# Altium footprint library TPS631000DRLR.PcbLib: 1 footprints
Each footprint in its own frame and in the unit in brackets; x right, y up, seen from the top. Pads: shape width x height; smd on the part's side, far side on the other; paste and mask are expansions set on the pad; w line width, h text height; cw(c..) or ccw(c..) is an arc to the next point about the centre after c.
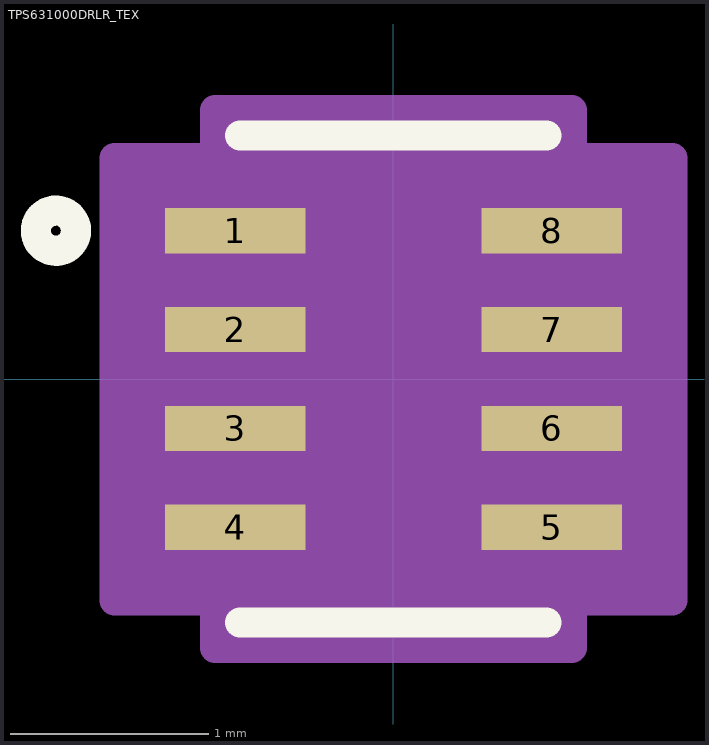
[diagram p0: the footprint, top view; thin cyan lines are the x and y axes]

## TPS631000DRLR_TEX [mil]
pads (8):
  rect 28x9 smd paste+0 mask+0: 1(-31.5,29.53) 2(-31.5,9.84) 3(-31.5,-9.84) 4(-31.5,-29.53) 5(31.5,-29.53) 6(31.5,-9.84) 7(31.5,9.84) 8(31.5,29.53)
Top Overlay:
  circle w6: c-67.19,29.53 r4
  lines w6: -30.5,-48.5 30.5,-48.5 ; -30.5,48.5 30.5,48.5
Mechanical 13:
  circle w0: c-17.5,29.53 r3
  lines w0: -12,43.5 ccw(c0,43.5) 12,43.5
  lines w1: -25.5,-43.5 -25.5,43.5 25.5,43.5 25.5,-43.5 -25.5,-43.5
Mechanical 15:
  region: -35.5,-44.03 -55.5,-44.03 -55.5,44.03 -35.5,44.03 -35.5,53.5 35.5,53.5 35.5,44.03 55.5,44.03 55.5,-44.03 35.5,-44.03 35.5,-53.5 -35.5,-53.5
  lines w6: -55.5,-44.03 -35.5,-44.03 -35.5,-53.5 35.5,-53.5 35.5,-44.03 55.5,-44.03 55.5,44.03 35.5,44.03 35.5,53.5 -35.5,53.5 -35.5,44.03 -55.5,44.03 -55.5,-44.03
3D body "TPS631000DRLR_TEX.step": height 27.09, standoff 0, extent -33.5,-43.5 33.5,43.5